# Altium footprint library ozge_er..PcbLib: 37 footprints (part 2 of 3)
Each footprint in its own frame and in the unit in brackets; x right, y up, seen from the top. Pads: shape width x height; smd on the part's side, far side on the other; paste and mask are expansions set on the pad; w line width, h text height; cw(c..) or ccw(c..) is an arc to the next point about the centre after c.
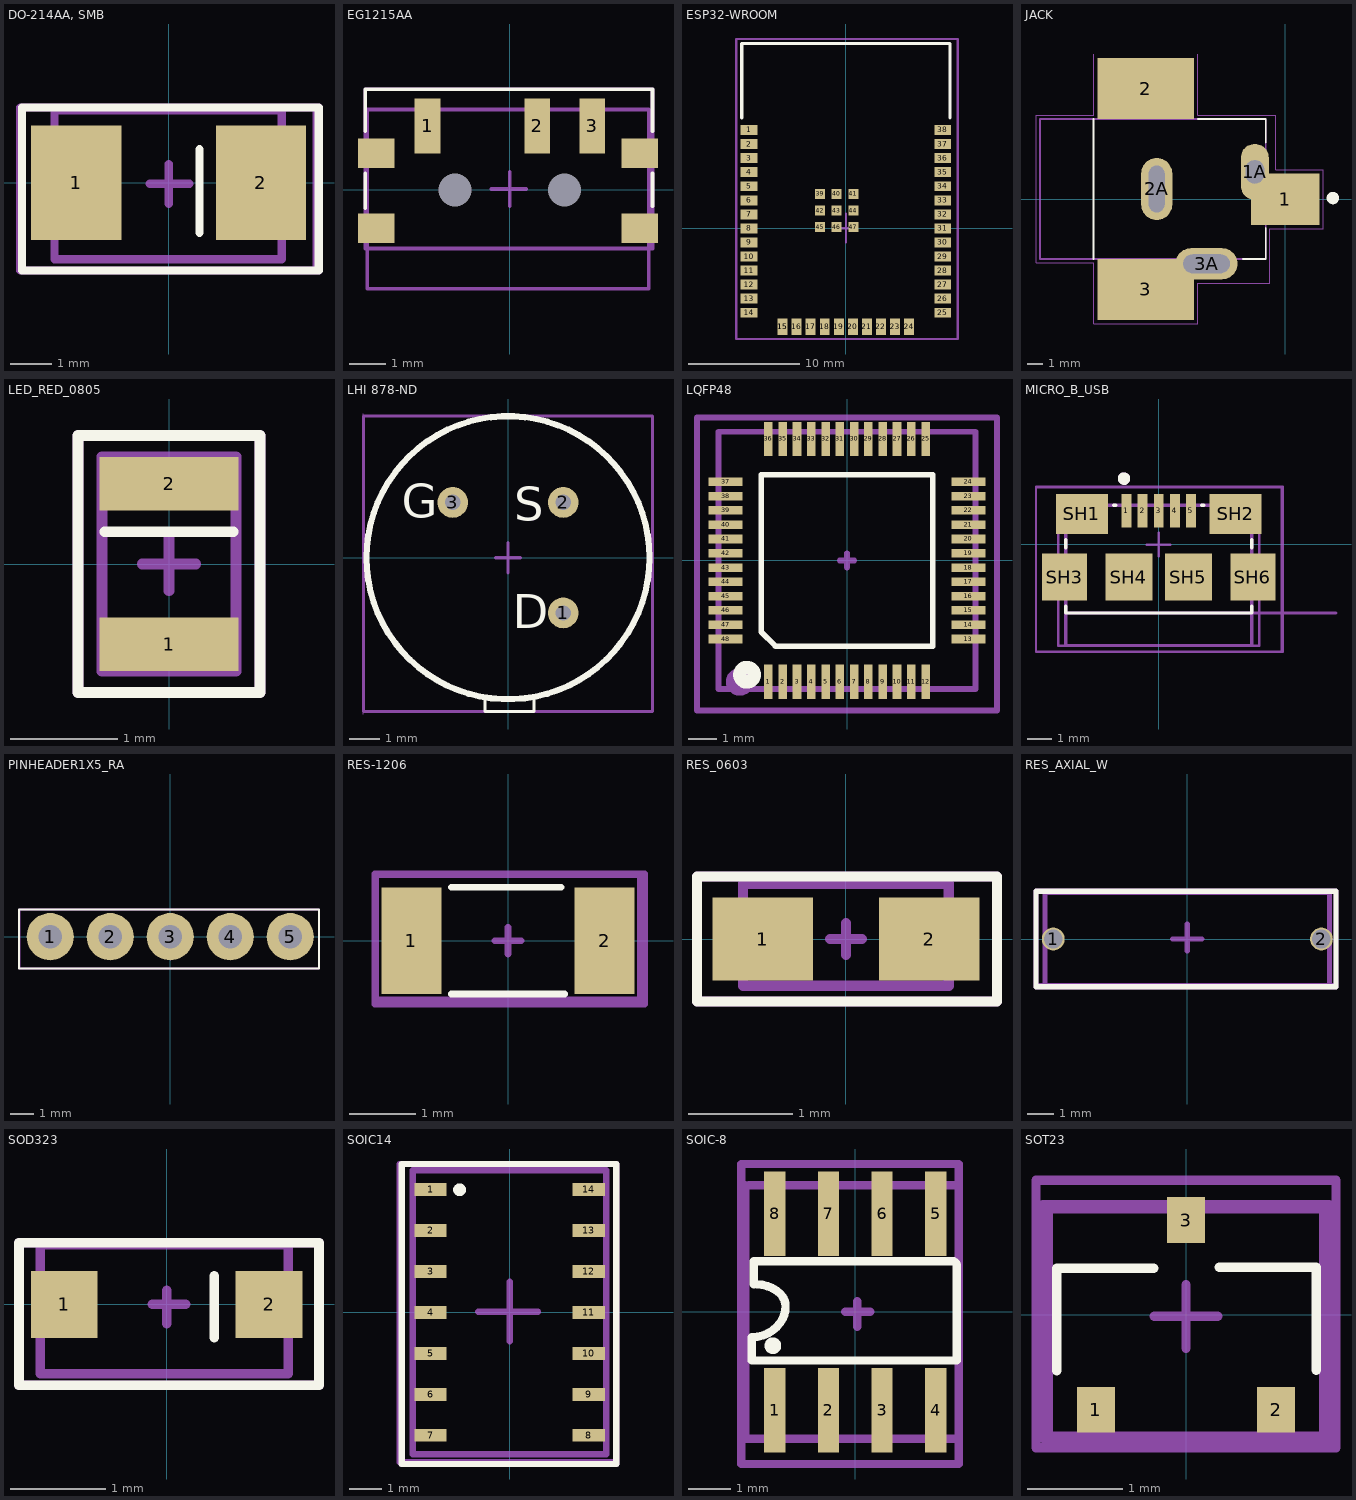
[diagram p1: the footprints below, top view; thin cyan lines are the x and y axes]

## DO-214AA, SMB [mm] "ZENER DIODE"
pads (2):
  rect 2.159x2.743 smd: 1(-2.21,0) 2(2.21,0)
Top Overlay:
  lines w0.2: 0.74,-1.2 0.74,0.8 ; -3.51,-2.1 -3.51,1.8 3.59,1.8 3.59,-2.1 -3.51,-2.1
Top 3D Body:
  lines w0.2: -2.73,-1.83 -2.73,1.73 2.71,1.73 2.71,-1.83 -2.73,-1.83
Top Component Center:
  lines w0.2: -0.45,-0.025 0.5,-0.025 ; 0,-0.5 0,0.45 0,0 ; 3.55,1.8 -3.55,1.8 -3.55,-2.1 3.6,-2.1 3.6,1.8
Top Designator:
  lines w0.2: -3.55,-2.1 -3.55,1.8 3.55,1.8 3.55,-2.1 -3.55,-2.1
  text ".Designator" at -3.35,-0.6 h0.9
3D body "1SMB5919BT3G.STEP": height 2.44, standoff -0.03, extent -2.73,-1.83 2.71,1.73

## EG1215AA [mm] "SWITCH"
pads (9):
  rect 0.7x1.5 smd: 1(-2.25,1.75) 2(0.75,1.75) 3(2.25,1.75)
  round 0 hole 0.9: 10(-1.5,0) 11(1.5,0)
  rect 1x0.8 smd: ""(-3.65,-1.05) ""(-3.65,1) ""(3.55,-1.05) ""(3.55,1)
Top Overlay:
  lines w0.1: -3.95,-0.5 -3.95,0.45 ; -3.95,1.6 -3.95,2.35 -3.95,2.75 3.9,2.75 3.9,1.6 ; 3.9,-0.45 3.9,0.45
Top 3D Body:
  lines w0.1: -3.9,-2.7 3.8,-2.7 3.8,2.2 -3.9,2.2 -3.9,-2.7
Top Component Center:
  lines w0.1: -0.5,0.025 0.45,0.025 ; 0,-0.45 0,0.5 0,0 ; -3.95,-1.6 3.9,-1.6 3.9,2.75 -3.95,2.75 -3.95,-1.6
Top Designator:
  lines w0.1: 3.9,-1.6 -3.95,-1.6 -3.95,2.75 3.9,2.75 3.9,1.687 3.9,-0.488 3.9,-1.575
  text ".Designator" at -3.65,-0.4 h1.8
3D body "EG1215AA--3DModel-STEP-1.STEP": height 2, standoff 0.3, extent -3.9,-2.7 3.8,2.2

## ESP32-WROOM [mm] "wifi modul"
pads (48):
  rect 1.5x0.9 smd: 1(-8.75,8.88) 2(-8.75,7.61) 3(-8.75,6.34) 4(-8.75,5.07) 5(-8.75,3.8) 6(-8.75,2.53) 7(-8.75,1.26) 8(-8.75,-0.01) 9(-8.75,-1.28) 10(-8.75,-2.55) 11(-8.75,-3.82) 12(-8.75,-5.09) 13(-8.75,-6.36) 14(-8.75,-7.63) 25(8.75,-7.63) 26(8.75,-6.36) 27(8.75,-5.09) 28(8.75,-3.82) 29(8.75,-2.55) 30(8.75,-1.28) 31(8.75,-0.01) 32(8.75,1.26) 33(8.75,2.53) 34(8.75,3.8) 35(8.75,5.07) 36(8.75,6.34) 37(8.75,7.61) 38(8.75,8.88)
  rect 0.9x1.5 smd: 15(-5.72,-8.88) 15(-5.72,-8.88) 16(-4.45,-8.88) 17(-3.18,-8.88) 18(-1.91,-8.88) 19(-0.64,-8.88) 20(0.63,-8.88) 21(1.9,-8.88) 22(3.17,-8.88) 23(4.44,-8.88) 24(5.71,-8.88)
  rect 0.9x0.9 smd: 39(-2.33,3.1) 40(-0.83,3.1) 41(0.67,3.1) 42(-2.33,1.6) 43(-0.83,1.6) 44(0.67,1.6) 45(-2.33,0.1) 46(-0.83,0.1) 47(0.67,0.1)
Top Overlay:
  lines w0.3: -9.4,10 -9.4,12.075 -9.4,14.625 -9.4,16.7 -4.5,16.7 4.5,16.7 9.3,16.7 ; 9.4,10 9.4,11.675 9.4,15.025 9.4,16.7
Top Component Center:
  lines w0.2: -0.5,0 0.5,0 0.5,0.025 0,0.025 ; 0,0 0,-1.275 0,1.325 ; -9.9,-10 10.1,-10 10.1,17.1 -9.9,17.1 -9.9,-10
Top Designator:
  lines w0.2: 10.1,-9.8 10.1,-10 ; 10.1,-10 4.9,-10 -4.7,-10 -9.9,-10 -9.9,17.1 10.1,17.1 10.1,-10
  text ".Designator" at -6.3,5.9 h1.52
3D body "User Library-esp-wroom-32.step": height 3, standoff -0.04, extent -9.035,-9.2 9.035,16.34

## JACK [mm]
pads (6):
  rect 4.4x3.3 smd: 1(0,0)
  oval 1.8x3.6 hole 1.2 slot 1.5 at 90 deg: 1A(-1.95,1.75)
  rect 6.2x3.9 smd: 2(-8.95,7.1) 3(-8.95,-5.8)
  oval 2x4 hole 1 slot 3 at 90 deg: 2A(-8.25,0.65)
  oval 4x2 hole 1.2 slot 3 at 0 deg: 3A(-5.05,-4.15)
Top Overlay:
  circle w0.4: c3.06,0.07 r0.2
  lines w0.127: -12.3,-3.85 -12.3,5.15 ; -5.6,5.15 -1.25,5.15 -1.25,3.65 ; -2.7,-3.85 -1.25,-3.85 -1.25,-1.85
Mechanical 13:
  lines w0.127: -15.75,-3.85 -15.75,5.15 -1.25,5.15 -1.25,-3.85 -15.75,-3.85
Mechanical 15:
  lines w0.05: -12.3,9.3 -12.3,5.4 -16,5.4 -16,-4.1 -12.3,-4.1 -12.3,-8 -5.6,-8 -5.6,-5.4 -1,-5.4 -1,-1.9 2.45,-1.9 2.45,1.9 -0.6,1.9 -0.6,5.4 -5.6,5.4 -5.6,9.3
3D body "pj-037ah-smt-tr.stp": height 11, standoff -3.4, extent -15.875,-6.838 1.225,8.362

## LED_RED_0805 [mm] "LED"
pads (2):
  rect 1.3x0.5 smd: 1(0,-0.75) 2(0,0.75)
Top Overlay:
  lines w0.1: -0.6,0.3 0.6,0.3 ; -0.85,-1.2 -0.85,1.2 0.85,1.2 0.85,-1.2 -0.85,-1.2
Top 3D Body:
  lines w0.1: -0.625,-1 -0.625,1 0.625,1 0.625,-1 -0.625,-1
Top Component Center:
  lines w0.1: 0,-0.25 0,0.25 ; 0,0 -0.25,0 0.25,0 ; 0.8,1.2 -0.85,1.2 -0.85,0.6 -0.85,-0.6 -0.85,-1.2 0.85,-1.2 0.85,1.2
Top Designator:
  lines w0.1: -0.85,-1.2 -0.85,1.2 0.85,1.2 0.85,-1.2 -0.85,-1.2
  text ".Designator" at 0.55,-1 h1
3D body "everlight-17-21-0805LED-red.step": height 1.1, standoff -0.01, extent -0.625,-1 0.625,1

## LHI 878-ND [mm]
pads (3):
  round 1 hole 0.5: 1(1.796,-1.796) 2(1.796,1.796) 3(-1.796,1.796)
Top Overlay:
  circle w0.2: c0,0 r4.6
  lines w0.1: -0.75,-4.6 -0.75,-5 0.85,-5 0.85,-4.55
  text "G" at -3.45,1.3 h1.1
  text "S" at 0.2,1.2 h1.1
  text "D" at 0.15,-2.3 h1.1
Top 3D Body:
  lines w0: -4.7,-5.078 -4.7,4.67
  lines w0.1: -4.7,-5 4.571,-5 4.7,-5 4.7,0.95 4.7,1.9 4.7,3.8 4.7,4.6 -4.7,4.6 -4.7,-5
Top Component Center:
  lines w0.1: -0.4,0 0.4,0 0,0 ; 4.65,4.6 -4.7,4.6 -4.7,-5 4.65,-5 4.7,-5 4.7,4.6 ; 0,0 0,0.5 0,-0.5 0,0
Top Designator:
  lines w0.1: -4.7,-5 4.7,-5 4.7,3.8 4.7,4.6 -4.7,4.6 -4.7,-5
  text ".Designator" at -3.9,-0.6 h1.1
3D body "User Library-LHI878.step": height 4.6, standoff -2.4, extent -4.6,-5.029 4.6,4.6

## LQFP48 [mm] "mcu"
pads (48):
  rect 0.3x1.2 smd mask+0.05: 1(-2.75,-4.25) 2(-2.25,-4.25) 3(-1.75,-4.25) 4(-1.25,-4.25) 5(-0.75,-4.25) 6(-0.25,-4.25) 7(0.25,-4.25) 8(0.75,-4.25) 9(1.25,-4.25) 10(1.75,-4.25) 11(2.25,-4.25) 12(2.75,-4.25) 25(2.75,4.25) 26(2.25,4.25) 27(1.75,4.25) 28(1.25,4.25) 29(0.75,4.25) 30(0.25,4.25) 31(-0.25,4.25) 32(-0.75,4.25) 33(-1.25,4.25) 34(-1.75,4.25) 35(-2.25,4.25) 36(-2.75,4.25)
  rect 1.2x0.3 smd mask+0.05: 13(4.25,-2.75) 14(4.25,-2.25) 15(4.25,-1.75) 16(4.25,-1.25) 17(4.25,-0.75) 18(4.25,-0.25) 19(4.25,0.25) 20(4.25,0.75) 21(4.25,1.25) 22(4.25,1.75) 23(4.25,2.25) 24(4.25,2.75) 37(-4.25,2.75) 38(-4.25,2.25) 39(-4.25,1.75) 40(-4.25,1.25) 41(-4.25,0.75) 42(-4.25,0.25) 43(-4.25,-0.25) 44(-4.25,-0.75) 45(-4.25,-1.25) 46(-4.25,-1.75) 47(-4.25,-2.25) 48(-4.25,-2.75)
Top Overlay:
  circle w0.47: c-3.5,-4 r0.25
  lines w0.2: -3,-2.5 -2.5,-3 3,-3 3,3 -3,3 -3,-2.5
Top Component Center:
  circle w0.47: c-3.75,-4.25 r0.25
  lines w0.2: -0.25,0 0.25,0 ; 0,-0.25 0,0.25 ; -5.25,-5.25 -5.25,5 5.25,5 5.25,-5.25 -5.25,-5.25 ; -4.5,-4.5 4.5,-4.5 4.5,4.5 -4.5,4.5 -4.5,-4.5
Top Designator:
  text ".Designator" at -2.5,-1 h1.52
3D body "User Library-LQFP48_Grid_0_5.STEP": height 1.6, standoff 0, extent -4.5,-4.5 4.5,4.5

## MICRO_B_USB [mm] "USB"
pads (11):
  rect 0.4x1.35 smd: 1(-1.3,1.338) 2(-0.65,1.338) 3(0,1.338) 4(0.65,1.338) 5(1.3,1.338)
  rect 2.1x1.6 smd: SH1(-3.1,1.212) SH2(3.1,1.212)
  rect 1.8x1.9 smd: SH3(-3.8,-1.338) SH6(3.8,-1.338)
  rect 1.9x1.9 smd: SH4(-1.2,-1.338) SH5(1.2,-1.338)
Top Overlay:
  circle w0.3: c-1.4,2.638 r0.1
  lines w0.127: -3.75,-2.512 -3.75,-2.788 3.75,-2.788 3.75,-2.512 ; -3.75,-0.162 -3.75,0.188 ; -1.83,1.563 -1.72,1.563 ; 1.72,1.563 1.83,1.563 ; 3.75,-0.162 3.75,0.188
Top 3D Body:
  lines w0.1: -4.05,-4.112 -4.05,1.587 4.05,1.587 4.05,-4.112 -4.05,-4.112
Top Component Center:
  lines w0.1: -0.475,-0.025 0.475,-0.025 ; 0,-0.5 0,0.45 0,0 ; 4.95,-4.35 5,-4.35 5,2.3 -4.95,2.3 -4.95,-4.35 4.975,-4.35
Mechanical 13:
  circle w0.3: c-1.4,2.638 r0.1
  lines w0.127: 7.15,-2.788 3.75,-2.788 ; -3.75,-2.788 -3.75,-4.098 3.75,-4.098 3.75,-2.788 ; -3.75,-2.788 -3.75,1.563 3.75,1.563 3.75,-2.788 ; -3.75,-2.788 3.75,-2.788
  text "PCB Edge" at 5.205,-2.566 h0.81
Mechanical 15:
  lines w0.05: -4.95,-4.349 4.95,-4.349 4.95,2.262 -4.95,2.262 -4.95,-4.349
3D body "10118192-0001LF--3DModel-STEP-56544.STEP": height 0.27, standoff -2.7, extent -3.95,-4.062 3.95,1.558

## PINHEADER1X5_RA [mm]
pads (5):
  round 2 hole 1: 1(-5.08,0) 2(-2.54,0) 3(0,0) 4(2.54,0) 5(5.08,0)
Top Overlay:
  lines w0.1: -6.4,-1.35 -6.4,1.15 6.3,1.15 6.3,-1.35 -6.4,-1.35
Top 3D Body:
  lines w0.1: -6.38,-1.35 -6.38,1.15 6.3,1.15 6.3,-1.35 -6.38,-1.35
Top Component Center:
  lines w0.1: -6.4,-1.35 -6.4,1.15 6.3,1.15 6.3,-1.35 -6.4,-1.35
Top Designator:
  lines w0.1: -6.4,-1.35 -6.4,1.15 6.3,1.15 6.3,-1.35 -6.4,-1.35
  text ".Designator" at -6,-1 h1
3D body "header-female-15.step": height 8.55, standoff -3, extent -6.38,-1.35 6.32,1.15

## RES-1206 [mm] "PTC"
pads (2):
  rect 0.9x1.6 smd: 1(-1.45,0) 2(1.45,0)
Top Overlay:
  lines w0.1: -0.85,-0.8 0.85,-0.8 ; -0.85,0.8 0.8,0.8
Top 3D Body:
  lines w0.1: -1.984,-0.888 1.985,-0.888 1.985,0.988 -1.984,0.988 -1.984,-0.888
Top Component Center:
  lines w0.1: -0.2,0 0.2,0 ; 0,-0.2 0,0.2 0,0 ; -2,-0.9 2,-0.9 2,1 -2,1 -2,-0.9
Top Designator:
  lines w0.1: -2,-0.95 -2,1 2,1 2.05,1 2.05,-0.95 -2,-0.95
  text ".Designator" at -1.85,-0.4 h0.8
3D body "res1206r.STEP": height 0.55, standoff 0, extent -1.984,-0.888 1.985,0.988

## RES_0603 [mm] "direnc"
pads (2):
  rect 0.965x0.8 smd: 1(-0.8,0) 2(0.8,0)
Top Overlay:
  lines w0.1: -1.43,-0.6 1.45,-0.6 1.45,-0.3 1.45,0.3 1.45,0.6 -1.43,0.6 -1.43,-0.6
Top 3D Body:
  lines w0.1: -0.988,-0.45 -0.988,0.529 0.989,0.529 0.989,-0.45 -0.988,-0.45
Top Component Center:
  lines w0.1: -0.15,0 0,0 ; 0,-0.15 0,0 ; 0,0.15 0,0 ; 0.15,0 0,0 ; -1.43,-0.6 -1.43,0.6 1.45,0.6 1.45,0.3 1.45,-0.3 1.45,-0.6 -1.43,-0.6
Top Designator:
  lines w0.1: -1.43,-0.6 -1.43,0.6 1.45,0.6 1.45,0.3 1.45,-0.3 1.45,-0.6 -1.43,-0.6
  text ".Designator" at -0.95,-0.3 h0.5
3D body "0603S1.STEP": height 0.44, standoff -0.01, extent -0.988,-0.45 0.989,0.529

## RES_AXIAL_W [mm] "NTC"
pads (2):
  round 0.86 hole 0.7: 1(-5.05,0) 2(5.05,0)
Top Overlay:
  lines w0.2: -5.7,-1.8 5.6,-1.8 5.6,-1.7 5.6,1.8 -5.5,1.8 -5.7,1.8 -5.7,-1.8
Top 3D Body:
  lines w0.2: -5.364,-1.754 5.355,-1.754 5.355,1.754 -5.364,1.754 -5.364,-1.754
Top Component Center:
  lines w0.2: -0.55,0 0.55,0 ; 0,-0.45 0,0.55 0,0 ; -5.7,-1.8 5.6,-1.8 5.6,1.8 -5.7,1.8 -5.7,-1.8
Top Designator:
  lines w0.2: 5.55,1.8 -5.7,1.8 -5.7,-1.75 5.6,-1.75 5.6,1.8
  text ".Designator" at -4.8,-0.7 h0.9
3D body "CircuitWorks-AXIAL0_4_33K.step": height 3.53, standoff -2.54, extent -5.364,-1.754 5.355,1.754

## SOD323 [mm]
pads (2):
  rect 0.7x0.7 smd: 1(-1.075,0) 2(1.075,0)
Top Overlay:
  lines w0.1: 0.5,-0.35 0.5,0.3 ; -1.55,-0.85 -1.55,0.65 1.6,0.65 1.6,-0.85 -1.55,-0.85
Top 3D Body:
  lines w0.1: -1.325,-0.725 -1.325,0.625 1.275,0.625 1.275,-0.725 -1.325,-0.725
Top Component Center:
  lines w0.1: -0.15,0 0.2,0 ; 0,-0.2 0,0.15 0,0 ; -1.55,-0.85 -1.55,0.65 1.6,0.65 1.6,-0.85 -1.55,-0.85
Top Designator:
  lines w0.1: -1.55,-0.85 -1.55,0.65 1.6,0.65 1.6,-0.85 -1.55,-0.85
  text ".Designator" at -1.4,-0.55 h0.9
3D body "User Library-SOD323-1.step": height 1.1, standoff 0, extent -1.325,-0.725 1.275,0.625

## SOIC14 [mm]
pads (14):
  rect 1x0.4 smd: 1(-2.45,3.81) 2(-2.45,2.54) 3(-2.45,1.27) 4(-2.45,0) 5(-2.45,-1.27) 6(-2.45,-2.54) 7(-2.45,-3.81) 8(2.45,-3.81) 9(2.45,-2.54) 10(2.45,-1.27) 11(2.45,0) 12(2.45,1.27) 13(2.45,2.54) 14(2.45,3.81)
Top Overlay:
  circle w0.254: c-1.55,3.8 r0.071
  lines w0.2: -3.35,-4.7 3.3,-4.7 3.3,4.6 -3.35,4.6 -3.35,-4.7
Top 3D Body:
  lines w0.2: -3,-4.4 3,-4.4 3,4.4 -3,4.4 -3,-4.4
Top Component Center:
  lines w0.2: -0.97,0.025 0.88,0.025 ; 0,-0.9 0,0.95 0,-0.02 ; -3.35,-4.7 3.3,-4.7 3.3,4.6 -3.35,4.6 -3.35,-4.7
Top Designator:
  lines w0.2: -3.4,-4.65 3.3,-4.65 3.3,4.6 -3.4,4.6 -3.4,-4.65
  text ".Designator" at 0.55,-4.35 h1
3D body "User Library-so14-1.step": height 1.7, standoff 0, extent -3,-4.4 3,4.4

## SOIC-8 [mm]
pads (8):
  rect 0.5x2 smd: 1(-1.905,-2.325) 2(-0.635,-2.325) 3(0.635,-2.325) 4(1.905,-2.325) 5(1.905,2.325) 6(0.635,2.325) 7(-0.635,2.325) 8(-1.905,2.325)
Top Overlay:
  circle w0.254: c-1.95,-0.8 r0.071
  lines w0.2: -2.4,0.65 -2.4,1.2 2.3,1.2 cw(c2.3,1.1) 2.4,1.1 2.4,-1.15 -2.45,-1.15 -2.45,-0.6 ccw(c-2.45,0.245) -1.853,-0.353 ccw(c-2.341,0.136) -1.65,0.136 ccw(c-2.045,0.136) -1.766,0.416 ccw(c-2.331,-0.15) -2.331,0.65
Top 3D Body:
  lines w0.2: -2.6,3 -2.6,-3 2.2,-3 2.45,-3 2.45,3 1.263,3 -1.262,3 -2.525,3
Top Component Center:
  lines w0.2: -0.24,0 0.11,0 0.36,0 ; 0.05,-0.35 0.05,0 0.05,0.25 ; -2.7,-3.6 -2.7,3.5 2.45,3.5 2.45,-3.6 -2.7,-3.6
Top Designator:
  lines w0.2: -2.7,-3.6 2.45,-3.6 2.45,3.5 -2.7,3.5 -2.7,-3.6
  text ".Designator" at -1.66,-0.72 h1
3D body "User Library-SOIC-8-1.step": height 1.75, standoff 0, extent -2.45,-3 2.45,3

## SOT23 [mm]
pads (3):
  rect 0.4x0.48 smd: 1(-0.95,-1) 2(0.95,-1) 3(0,1)
Top Overlay:
  lines w0.1: -1.36,-0.59 -1.36,0.49 ; -1.34,0.49 -0.34,0.49 ; 0.35,0.5 1.35,0.5 ; 1.37,-0.58 1.37,0.5
Top 3D Body:
  lines w0.1: -1.45,-1.28 -1.45,1.12 1.45,1.12 1.45,0.52 1.45,-0.68 1.45,-1.28 -1.45,-1.28
Top Component Center:
  lines w0.1: -1.51,-1.3 -1.51,1.16 -0.78,1.16 0.74,1.16 1.5,1.16 ; -1.5,-1.3 -0.745,-1.3 0.765,-1.3 1.52,-1.3 ; -0.335,-0.015 0.335,-0.015 ; 0,-0.35 0,0.32 0,0 ; 1.51,-1.3 1.51,1.16
Top Designator:
  lines w0.1: -1.58,-1.4 -0.753,-1.4 0.752,-1.4 1.58,-1.4 1.58,-0.71 1.58,0.55 1.58,1.42 0.752,1.42 -0.753,1.42 -1.58,1.42 -1.58,0.54 -1.58,-0.72 -1.58,-1.4
  text ".Designator" at -1.38,-0.42 h0.5
3D body "User Library-SOT23F.STEP": height 0.91, standoff 0, extent -1.45,-1.28 1.45,1.12